# EAGLE library part 72GT- (library hv_inductor)
FILTER dual helix bandpass filter with tab, type G
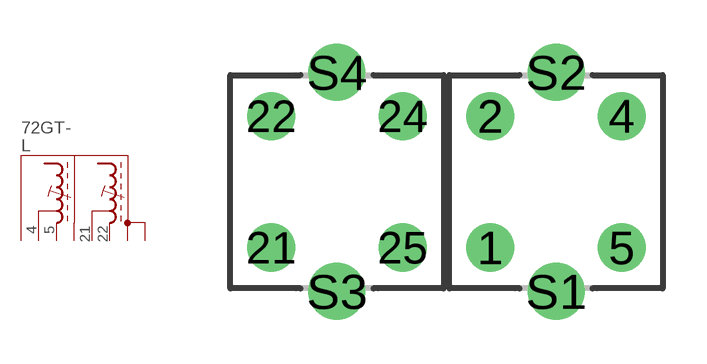
[diagram p6: symbol with the pads of 71GX2; footprint 71GX2]

Designator prefix L

## 72GT-452122 (OC_FARNELL: unknown; OC_NEWARK: unknown)  [71GX2]
4  IN  pas
5  GND1  pas
21  OUT  pas
22  GND2  pas
S1  S1  pas
S2  S2  pas
S3  S3  pas
S4  S4  pas

## 72GT-422122 (OC_FARNELL: unknown; OC_NEWARK: unknown)  [71GX2]
2  GND1  pas
4  IN  pas
21  OUT  pas
22  GND2  pas
S1  S1  pas
S2  S2  pas
S3  S3  pas
S4  S4  pas

## 72GT-512224 (OC_FARNELL: unknown; OC_NEWARK: unknown)  [71GX2]
1  GND1  pas
5  IN  pas
22  OUT  pas
24  GND2  pas
S1  S1  pas
S2  S2  pas
S3  S3  pas
S4  S4  pas

## 72GT-512122 (OC_FARNELL: unknown; OC_NEWARK: unknown)  [71GX2]
Pads as for 71GX2

## 72GT-542122 (OC_FARNELL: unknown; OC_NEWARK: unknown)  [71GX2]
4  GND1  pas
5  IN  pas
21  OUT  pas
22  GND2  pas
S1  S1  pas
S2  S2  pas
S3  S3  pas
S4  S4  pas

## Footprint 71GX2 (pad centres in mm)
DUAL RF COIL ASSEMBLY 1 winding, 4 pads, grid 2.25 mm
drill 1.1: 1 1.5,-2.25; 2 1.5,2.25; 4 6,2.25; 5 6,-2.25; 21 -6,-2.25; 22 -6,2.25; 24 -1.5,2.25; 25 -1.5,-2.25
drill 1.3: S1 3.75,-3.75; S2 3.75,3.75; S3 -3.75,-3.75; S4 -3.75,3.75